# EAGLE library part 6DR4 (library tubes_pmillett)
Single mini triode, base 6BG (6C4, 6DR4, etc.)
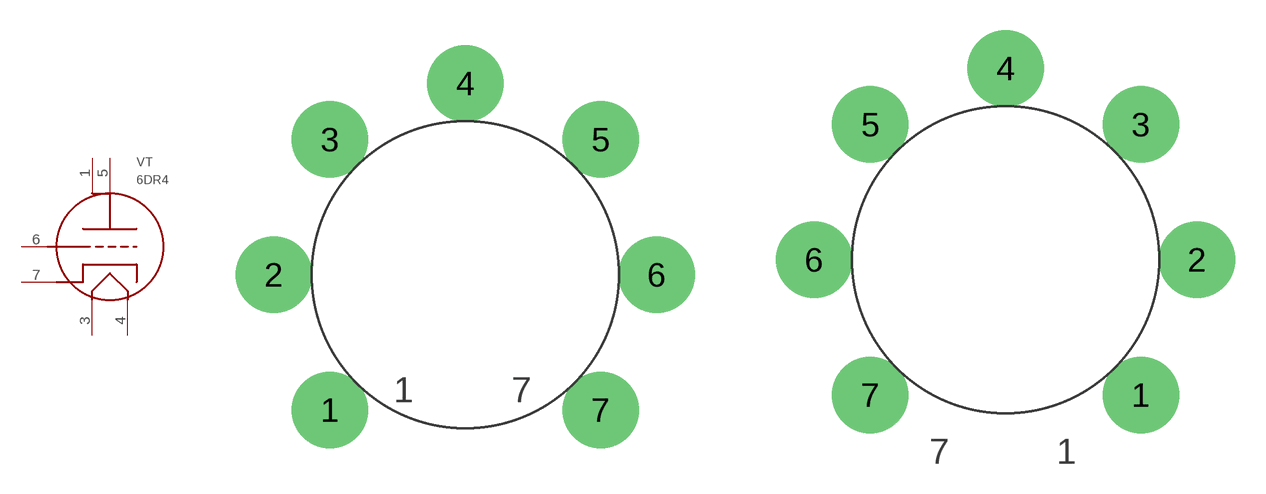
[diagram p101: symbol with the pads of MINI7_PCB_BOT; footprints MINI7_PCB_BOT, MINI7_PCB]

Designator prefix VT

## 6DR4  [MINI7_PCB_BOT]
1  A1  pas
3  H1  pas
4  H2  pas
5  A2  pas
6  G1  pas
7  K  pas

## 6DR4_TOP  [MINI7_PCB]
Pads as for MINI7_PCB_BOT

## Footprint MINI7_PCB_BOT (pad centres in mm)
Standard 7-pin-mini PCB socket, mounted backside
drill 1.93 pad 3.81: 1 -6.731,-6.731; 2 -9.525,0; 3 -6.731,6.731; 4 0,9.525; 5 6.731,6.731; 6 9.525,0; 7 6.731,-6.731

## Footprint MINI7_PCB (pad centres in mm)
TUBE SOCKET, 7-PIN MINI, .75 CIRCLE
drill 1.93 pad 3.81: 1 6.731,-6.731; 2 9.525,0; 3 6.731,6.731; 4 0,9.525; 5 -6.731,6.731; 6 -9.525,0; 7 -6.731,-6.731